# EAGLE library part SN74HC138PWR (library SN74HC138PWR)
3-Line To 8-Line Decoders/Demultiplexers Source: Datasheet <http://www.ti.com/lit/gpn/sn74hc138>
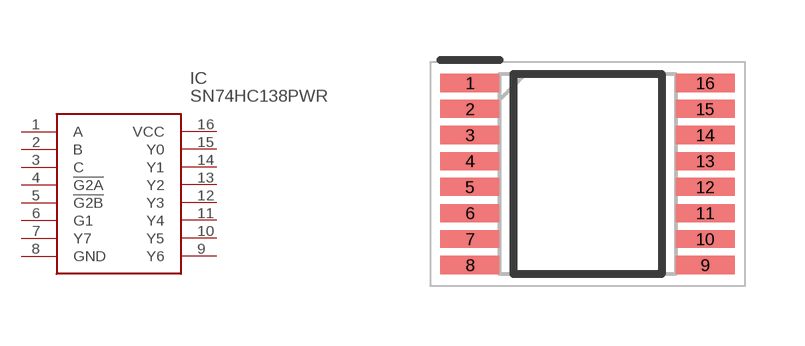
[diagram p0: symbol with the pads of SOP65P640X120-16N; footprint SOP65P640X120-16N]

Designator prefix IC

## SN74HC138PWR (ARROW_PART_NUMBER: SN74HC138PWR; ARROW_PRICE-STOCK: https://www.arrow.com/en/products/sn74hc138pwr/texas-instruments; DESCRIPTION: 3-Line To 8-Line Decoders/Demultiplexers; HEIGHT: 1.2mm; MANUFACTURER_NAME: Texas Instruments; MANUFACTURER_PART_NUMBER: SN74HC138PWR; MOUSER_PART_NUMBER: 595-SN74HC138PWR; MOUSER_PRICE-STOCK: https://www.mouser.co.uk/ProductDetail/Texas-Instruments/SN74HC138PWR?qs=WzgTT80quPG%2F%252Bg2Du7xoUA%3D%3D)  [SOP65P640X120-16N]
1  A
2  B
3  C
4  !G2A
5  !G2B
6  G1
7  Y7
8  GND
9  Y6
10  Y5
11  Y4
12  Y3
13  Y2
14  Y1
15  Y0
16  VCC

## Footprint SOP65P640X120-16N (pad centres in mm)
PW
smd 1.475 x 0.45: 1 -2.938,2.275; 2 -2.938,1.625; 3 -2.938,0.975; 4 -2.938,0.325; 5 -2.938,-0.325; 6 -2.938,-0.975; 7 -2.938,-1.625; 8 -2.938,-2.275; 9 2.938,-2.275; 10 2.938,-1.625; 11 2.938,-0.975; 12 2.938,-0.325; 13 2.938,0.325; 14 2.938,0.975; 15 2.938,1.625; 16 2.938,2.275